# Altium integrated library XTEND.IntLib: 1 symbol
Pins are listed as number, name and electrical type; pins without a type are passive.

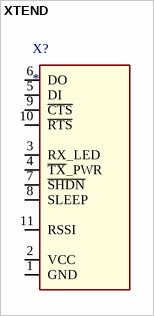
[diagram p0: symbol XTEND]

## XTEND
designator X?
ID: XT09-MI-ND; PDF: http://ftp1.digi.com/support/documentation/90002166_A.pdf; BUY_LINK: http://www.digikey.com/product-detail/en/XT09-MI/XT09-MI-ND/688313; PRICE: 180.000
footprint SJ-352x-SMT
footprint XTEND
pins: 1 GND, 2 VCC, 3 RX_LED, 4 ~{TX}_PWR, 5 DI, 6 DO, 7 ~{SHDN}, 8 SLEEP, 9 ~{CTS}, 10 ~{RTS}, 11 RSSI